# EAGLE library part CC3000 (library Richard_Boards)
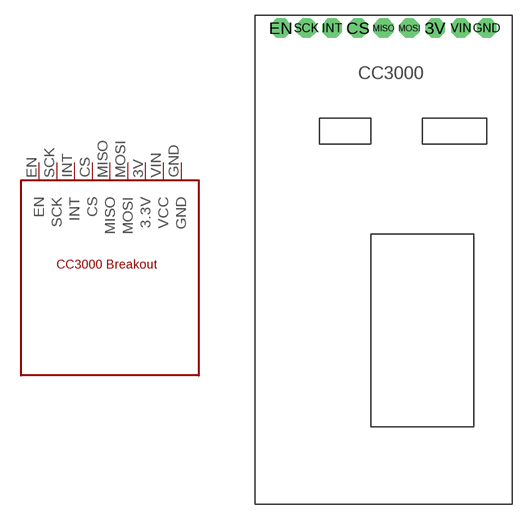
[diagram p12: symbol with the pads of CC3000; footprint CC3000]

Designator prefix -

## CC3000  [CC3000]
3V  3.3V  pas
CS  CS  pas
EN  EN  pas
GND  GND  pas
INT  INT  pas
MISO  MISO  pas
MOSI  MOSI  pas
SCK  SCK  pas
VIN  VCC  pas

## Footprint CC3000 (pad centres in mm)
PIN HEADER
drill 1.016 pad 1.93 octagon: 3V 5.08,0; CS -2.54,0; EN -10.16,0; GND 10.16,0; INT -5.08,0; MISO 0,0; MOSI 2.54,0; SCK -7.62,0; VIN 7.62,0